# EAGLE library part ODROID_J4 (library odroid_shield)
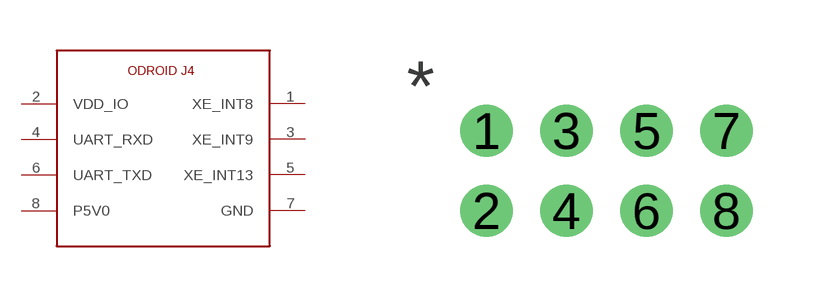
[diagram p0: symbol with the pads of 2X04/2MM; footprint 2X04/2MM]

Designator prefix -

## ODROID_J4  [2X04/2MM]
1  XE_INT8
2  VDD_IO
3  XE_INT9
4  UART_RXD
5  XE_INT13
6  UART_TXD
7  GND
8  P5V0

## Footprint 2X04/2MM (pad centres in mm)
drill 0.8: 1 -3,1; 2 -3,-1; 3 -1,1; 4 -1,-1; 5 1,1; 6 1,-1; 7 3,1; 8 3,-1